# Altium footprint library miscellanea.PcbLib: 14 footprints
Each footprint in its own frame and in the unit in brackets; x right, y up, seen from the top. Pads: shape width x height; smd on the part's side, far side on the other; paste and mask are expansions set on the pad; w line width, h text height; cw(c..) or ccw(c..) is an arc to the next point about the centre after c.
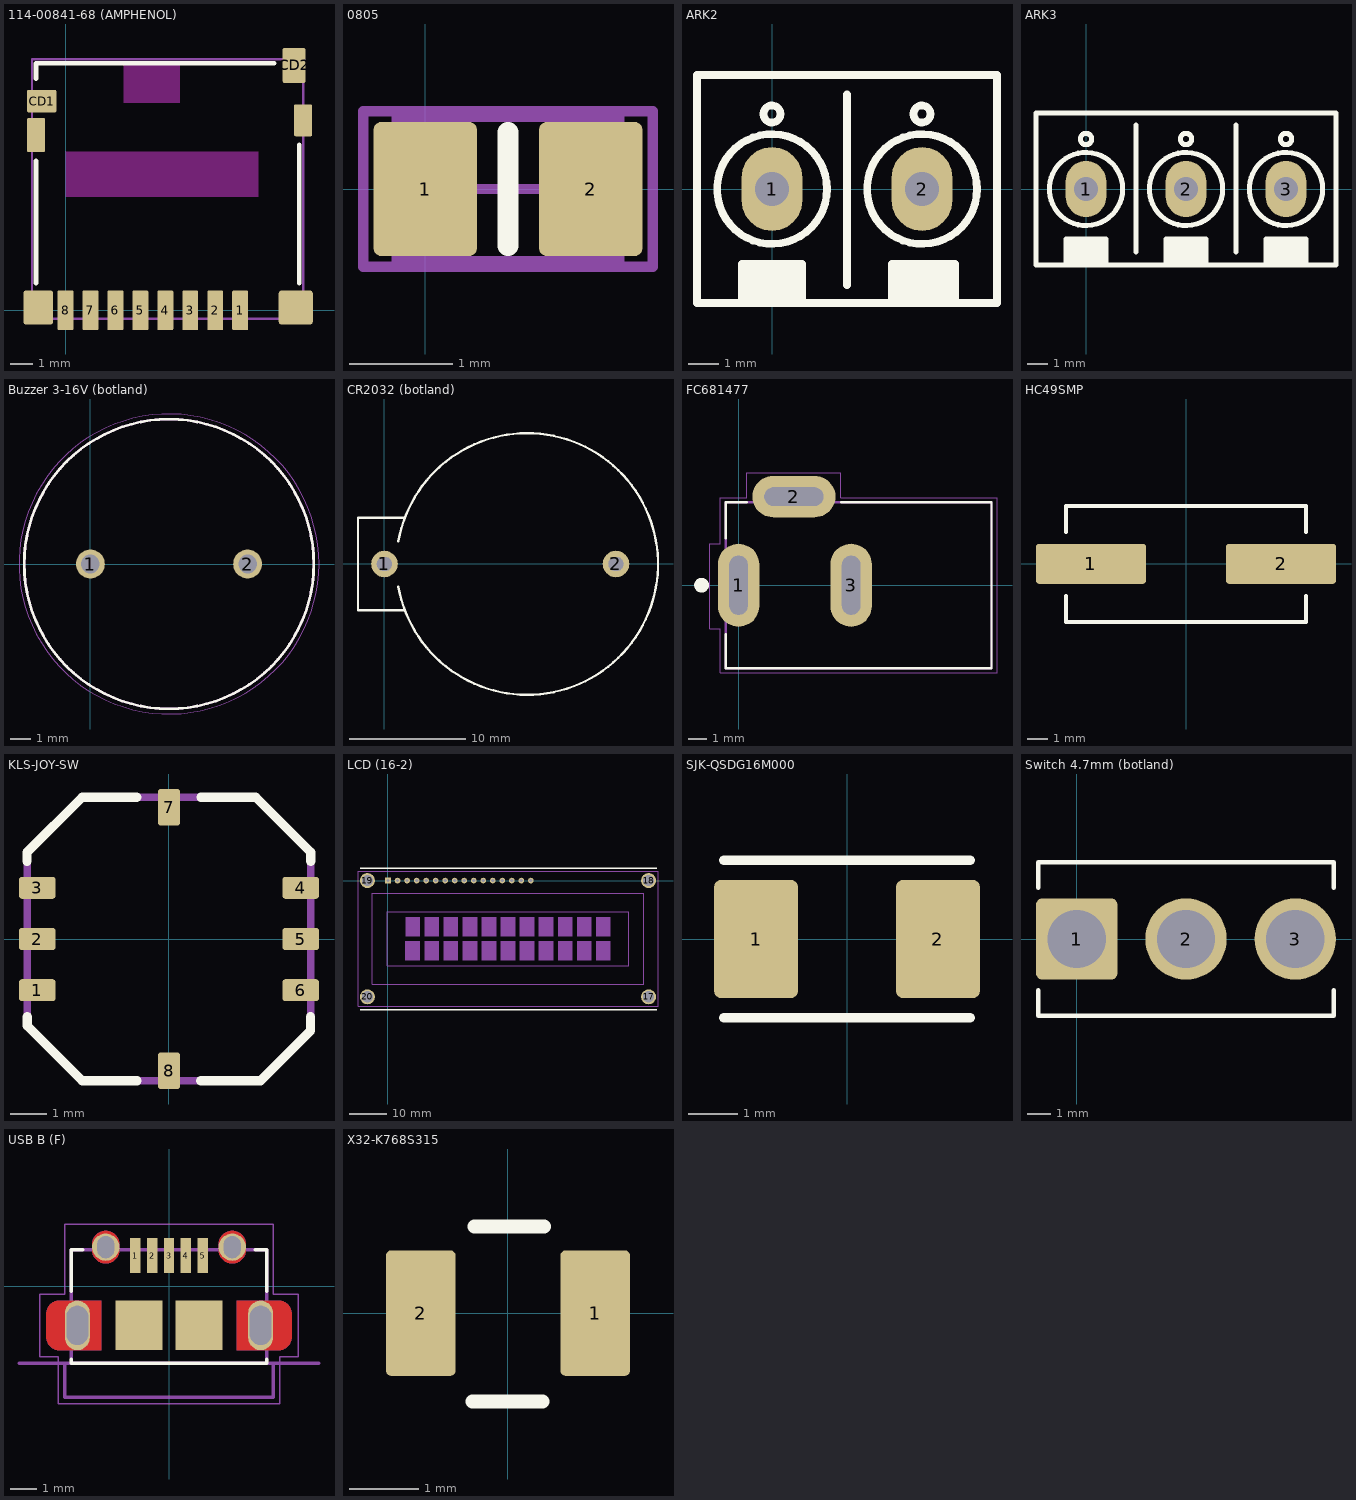
[diagram p0: the footprints below, top view; thin cyan lines are the x and y axes]

## 114-00841-68 (AMPHENOL) [mm]
pads (14):
  rrect15% 0.7x1.75 smd paste-0.05: 1(7.7,0) 2(6.6,0) 3(5.5,0) 4(4.4,0) 5(3.3,0) 6(2.2,0) 7(1.1,0) 8(0,0)
  rrect15% 1.3x1 smd mask+0.038: CD1(-1.05,9.225)
  rrect15% 1x1.55 smd paste-0.05: CD2(10.075,10.8)
  rrect15% 0.8x1.5 smd paste-0.05 mask+0.038: ""(-1.3,7.725)
  rrect15% 1.3x1.5 smd paste-0.05: ""(-1.2,0.125)
  rrect15% 1.5x1.5 smd paste-0.05: ""(10.15,0.125)
  rrect15% 0.8x1.4 smd paste-0.05: ""(10.475,8.375)
Top Layer keep-out:
  rectangle: 2.55,9.15 5.05,11
  rectangle: 0,5 8.5,7
Top Overlay:
  lines w0.2: -1.3,1.2 -1.3,6.6 ; -1.3,10.2 -1.3,10.9 5.6,10.9 9.2,10.9 ; 10.3,1.2 10.3,7.3
Mechanical 15:
  lines w0.1: -1.475,-0.375 10.475,-0.375 10.475,11.075 -1.475,11.075 -1.475,-0.375

## 0805 [mm]
pads (2):
  rrect15% 1x1.3 smd: 1(0,0) 2(1.6,0)
Top Overlay:
  lines w0.2: 0.8,-0.55 0.8,0.55
Mechanical 13:
  lines w0.1: -0.275,-0.7 1.875,-0.7 1.875,0.7 -0.275,0.7 -0.275,-0.7
Mechanical 15:
  lines w0.1: 0.3,0 1.3,0 ; 0.8,-0.5 0.8,0.5 ; -0.6,-0.75 2.2,-0.75 2.2,0.75 -0.6,0.75 -0.6,-0.75

## ARK2 [mil]
pads (2):
  oval 80x110 hole 45: 1(0,0) 2(196.85,0)
Top Overlay:
  circle w10: c196.85,0 r72.11
  circle w10: c0,0 r72.11
  circle w10: c0,98.43 r11.18
  circle w10: c196.85,98.43 r11.18
  rectangle: 161.42,-148.43 241.42,-98.43
  rectangle: -39.37,-148.43 40.63,-98.43
  lines w10: -39.37,-149.61 -39.37,-98.43 39.37,-98.43 39.37,-149.61 ; 98.43,-125.98 98.43,124.02 ; 157.48,-149.61 157.48,-98.43 240.16,-98.43 240.16,-149.61 ; -98.43,-149.61 -98.43,149.61 295.28,149.61 295.28,-149.61 -98.43,-149.61

## ARK3 [mil]
pads (3):
  oval 80x110 hole 47.24: 1(0,0) 2(196.85,0) 3(393.7,0)
Top Overlay:
  circle w10: c393.7,98.43 r11.18
  circle w10: c196.85,98.43 r11.18
  circle w10: c0,98.43 r11.18
  circle w10: c0,0 r72.11
  circle w10: c196.85,0 r72.11
  circle w10: c393.7,0 r72.11
  rectangle: -39.37,-149.61 40.63,-99.61
  rectangle: 156.22,-148.43 236.22,-98.43
  rectangle: 353.07,-148.43 433.07,-98.43
  lines w10: -39.37,-149.61 -39.37,-98.43 39.37,-98.43 39.37,-149.61 ; 98.43,-124.02 98.43,125.98 ; 157.48,-149.61 157.48,-98.43 236.22,-98.43 236.22,-148.43 ; 295.28,-124.02 295.28,125.98 ; 354.33,-149.61 354.33,-98.43 433.07,-98.43 433.07,-149.61 ; -98.43,-149.61 -98.43,149.61 492.13,149.61 492.13,0 492.13,-149.61 -98.43,-149.61
3D body: height 393.7, standoff 0, extent -98.33,-145.67 488.19,145.67

## Buzzer 3-16V (botland) [mm]
pads (2):
  round 1.4 hole 0.9: 1(0,0) 2(7.6,0)
Top Overlay:
  circle w0.127: c3.8,0 r7
Mechanical 4:
  circle w0.127: c3.8,0 r7
  circle w0.127: c3.8,0 r7
Mechanical 16:
  circle w0.05: c3.8,0 r7.25

## CR2032 (botland) [mm]
pads (2):
  round 2.3 hole 1.3 slot 1.2 at 90 deg: 1(0,0) 2(20,0)
Top Overlay:
  lines w0.2: 1.202,-1.962 ccw(c12.33,0) 1.202,1.962 ; 1.78,-4 -2.286,-4 -2.286,4 1.78,4
3D body "CR2032_HOR_HOLD.step": height 8.5, standoff -4, extent -1.07,-11 23.43,11

## FC681477 [mm]
pads (3):
  oval 2.25x4.5 hole 1 slot 3.2 at 90 deg: 1(0,0) 3(6.1,0)
  oval 4.5x2.25 hole 1 slot 3.2 at 0 deg: 2(3,4.8)
Top Overlay:
  circle w0.4: c-2,0 r0.2
  lines w0.127: -0.7,-2.65 -0.7,-4.5 13.7,-4.5 13.7,4.5 5.55,4.5 ; -0.7,2.55 -0.7,4.5 0.45,4.5
Mechanical 1:
  lines w0: -0.5,-1.75 -0.5,1.75 0.5,1.75 0.5,-1.75 -0.5,-1.75 ; 1.5,4.2 4.5,4.2 4.5,5.2 1.5,5.2 1.5,4.2 ; 5.5,-1.5 5.5,1.5 6.5,1.5 6.5,-1.5 5.5,-1.5
Mechanical 4:
  lines w0.127: -0.7,-4.5 -0.7,4.5 ; -0.7,-4.5 13.7,-4.5 ; -0.7,-4.5 -0.7,4.5 ; -0.7,-4.5 13.7,-4.5 ; -0.7,4.5 13.7,4.5 ; -0.7,4.5 13.7,4.5 ; 13.7,-4.5 13.7,4.5 ; 13.7,-4.5 13.7,4.5
Mechanical 16:
  lines w0.05: -1.55,-2.35 -1,-2.35 -1,-4.75 14,-4.75 14,4.75 5.55,4.75 5.55,6.1 0.45,6.1 0.45,4.75 -1,4.75 -1,2.25 -1.55,2.25 -1.55,-2.35

## HC49SMP [mm]
pads (2):
  rrect15% 5.5x2 smd paste-0.05: 1(-4.75,0) 2(4.75,0)
Top Overlay:
  lines w0.2: -6,-1.6 -6,-2.915 6,-2.915 6,-1.6 ; -6,1.6 -6,2.9 6,2.9 6,1.6
3D body: height 4, standoff 0, extent -6,-2.9 6,2.9

## KLS-JOY-SW [mm]
height 5.1
pads (8):
  rrect25% 1x0.6 smd paste-0.05: 1(-3.6,-1.4) 2(-3.6,0) 3(-3.6,1.4) 4(3.6,1.4) 5(3.6,0) 6(3.6,-1.4)
  rrect25% 0.6x1 smd paste-0.05: 7(0,3.6) 8(0,-3.6)
Top Overlay:
  lines w0.254: -3.88,2.125 -3.88,2.37 -2.375,3.875 -0.88,3.875 ; -3.875,-2.126 -3.875,-2.375 -2.375,-3.875 -0.875,-3.875 ; 0.87,-3.875 2.5,-3.875 3.87,-2.505 3.87,-2.125 ; 0.875,3.875 2.375,3.875 3.875,2.375 3.875,2.126
Dimensions:
  lines w0.2: -3.875,-2.375 -3.875,2.375 -2.375,3.875 2.375,3.875 3.875,2.375 3.875,-2.5 2.5,-3.875 -2.375,-3.875 -3.875,-2.375
3D body: height 5.1, standoff 0.05, extent -1.17,-1.173 1.17,1.173
3D body: height 0.25, standoff 0, extent 6,4.25 6,4.25
3D body: height 2.7, standoff 0.1, extent -1.95,-1.947 1.95,1.947
3D body: height 1.85, standoff 0, extent -3.877,-3.873 3.877,3.877

## LCD (16-2) [mm]
pads (20):
  rect 1.5x1.5 hole 0.9: 1(0,0)
  round 1.5 hole 0.9: 2(2.54,0) 3(5.08,0) 4(7.62,0) 5(10.16,0) 6(12.7,0) 7(15.24,0) 8(17.78,0) 9(20.32,0) 10(22.86,0) 11(25.4,0) 12(27.94,0) 13(30.48,0) 14(33.02,0) 15(35.56,0) 16(38.1,0)
  round 4 hole 3: 17(69.5,-31) 18(69.5,0) 19(-5.5,0) 20(-5.5,-31)
Top Overlay:
  lines w0.4: -7.391,3.302 71.609,3.302 ; -7.373,-34.473 71.627,-34.473
Mechanical 13:
  region: 8.5,-21.244 4.66,-21.244 4.66,-16.18 8.5,-16.18
  region: 13.58,-14.888 9.745,-14.888 9.745,-9.83 13.58,-9.83
  region: 13.58,-21.25 9.754,-21.25 9.754,-16.18 13.58,-16.18
  region: 18.66,-14.907 14.848,-14.907 14.848,-9.83 18.66,-9.83
  region: 18.66,-21.252 14.84,-21.252 14.84,-16.18 18.66,-16.18
  region: 23.74,-14.874 19.907,-14.874 19.907,-9.83 23.74,-9.83
  region: 23.74,-21.256 19.926,-21.256 19.926,-16.18 23.74,-16.18
  region: 28.82,-14.874 24.995,-14.874 24.995,-9.83 28.82,-9.83
  region: 28.82,-21.254 25.006,-21.254 25.006,-16.18 28.82,-16.18
  region: 33.9,-14.873 30.083,-14.873 30.083,-9.83 33.9,-9.83
  region: 33.9,-21.233 30.083,-21.233 30.083,-16.18 33.9,-16.18
  region: 38.98,-14.882 35.172,-14.882 35.172,-9.83 38.98,-9.83
  region: 38.98,-21.255 35.17,-21.255 35.17,-16.18 38.98,-16.18
  region: 44.06,-14.88 40.259,-14.88 40.259,-9.83 44.06,-9.83
  region: 44.06,-21.239 40.259,-21.239 40.259,-16.18 44.06,-16.18
  region: 49.14,-14.903 45.334,-14.903 45.334,-9.83 49.14,-9.83
  region: 49.14,-21.237 45.347,-21.237 45.347,-16.18 49.14,-16.18
  region: 54.22,-14.889 50.426,-14.889 50.426,-9.83 54.22,-9.83
  region: 54.22,-21.236 50.436,-21.236 50.436,-16.18 54.22,-16.18
  region: 59.3,-14.892 55.508,-14.892 55.508,-9.83 59.3,-9.83
  region: 59.3,-21.246 55.51,-21.246 55.51,-16.18 59.3,-16.18
  region: 8.5,-14.896 4.672,-14.896 4.672,-9.83 8.5,-9.83
  lines w0.2: -4.2,-27.6 -4.2,-3.4 68.2,-3.4 68.2,-27.6 -4.2,-27.6 ; -0.2,-22.7 64.2,-22.7 64.2,-8.3 -0.2,-8.3 -0.2,-22.7
Mechanical 15:
  lines w0.05: -8,-33.5 72,-33.5 72,2.5 -8,2.5 -8,-33.5

## SJK-QSDG16M000 [mm]
pads (2):
  rrect15% 1.7x2.4 smd: 1(-1.85,0)
  rrect15% 1.7x2.4 smd paste-0.05: 2(1.85,0)
Top Overlay:
  lines w0.2: -2.5,-1.6 2.5,-1.6 ; -2.5,1.6 2.5,1.6

## Switch 4.7mm (botland) [mm]
pads (3):
  rrect15% 3.5x3.5 hole 2.5: 1(0,0)
  round 3.5 hole 2.5: 2(4.7,0) 3(9.4,0)
Top Overlay:
  lines w0.2: -1.65,-2.2 -1.65,-3.3 11.05,-3.3 11.05,-2.2 ; -1.65,2.2 -1.65,3.3 11.05,3.3 11.05,2.2

## USB B (F) [mm]
pads (11):
  rect 0.4x1.35 smd mask+0.038: 1(-1.3,1.175) 2(-0.65,1.175) 3(0,1.175) 4(0.65,1.175) 5(1.3,1.175)
  oval 0.95x1.9 hole 0.825 slot 1.5 at 90 deg: ""(-3.512,-1.5) ""(3.512,-1.5)
  round 1.05 hole 0.85 slot 0.65 at 0 deg: ""(-2.425,1.5) ""(2.425,1.5)
  rect 1.8x1.9 smd: ""(-1.15,-1.5) ""(1.15,-1.5)
Top Layer:
  region: 3.1,-1.5 2.6,-1.5 2.6,-0.55 4.2,-0.55 4.226,-0.551 4.252,-0.553 4.278,-0.556 4.304,-0.561 4.329,-0.567 4.355,-0.574 4.379,-0.583 4.403,-0.593 4.427,-0.604 4.45,-0.617 4.472,-0.631 4.494,-0.645 4.515,-0.661 4.535,-0.678 4.554,-0.696 4.572,-0.715 4.589,-0.735 4.605,-0.756 4.619,-0.778 4.633,-0.8 4.645,-0.823 4.657,-0.847 4.667,-0.871 4.676,-0.895 4.683,-0.921 4.689,-0.946 4.694,-0.972 4.697,-0.998 4.699,-1.024 4.7,-1.05 4.7,-1.5 3.925,-1.5 3.925,-1.025 3.925,-1.011 3.923,-0.996 3.922,-0.982 3.919,-0.968 3.916,-0.954 3.912,-0.94 3.907,-0.926 3.901,-0.913 3.895,-0.9 3.888,-0.887 3.881,-0.875 3.872,-0.863 3.864,-0.852 3.854,-0.841 3.844,-0.831 3.834,-0.821 3.823,-0.811 3.812,-0.803 3.8,-0.794 3.788,-0.787 3.775,-0.78 3.762,-0.774 3.749,-0.768 3.735,-0.763 3.721,-0.759 3.707,-0.756 3.693,-0.753 3.679,-0.752 3.664,-0.75 3.65,-0.75 3.4,-0.75 3.384,-0.75 3.369,-0.752 3.353,-0.754 3.338,-0.757 3.322,-0.76 3.307,-0.765 3.292,-0.77 3.278,-0.776 3.264,-0.783 3.25,-0.79 3.237,-0.798 3.224,-0.807 3.211,-0.817 3.199,-0.827 3.188,-0.838 3.177,-0.849 3.167,-0.861 3.157,-0.874 3.148,-0.887 3.14,-0.9 3.133,-0.914 3.126,-0.928 3.12,-0.942 3.115,-0.957 3.11,-0.972 3.107,-0.988 3.104,-1.003 3.102,-1.019 3.1,-1.034 3.1,-1.05
  region: -3.1,-1.5 -2.6,-1.5 -2.6,-2.45 -4.2,-2.45 -4.226,-2.449 -4.252,-2.447 -4.278,-2.444 -4.304,-2.439 -4.329,-2.433 -4.355,-2.426 -4.379,-2.417 -4.403,-2.407 -4.427,-2.396 -4.45,-2.383 -4.472,-2.369 -4.494,-2.355 -4.515,-2.339 -4.535,-2.322 -4.554,-2.304 -4.572,-2.285 -4.589,-2.265 -4.605,-2.244 -4.619,-2.222 -4.633,-2.2 -4.645,-2.177 -4.657,-2.153 -4.667,-2.129 -4.676,-2.105 -4.683,-2.079 -4.689,-2.054 -4.694,-2.028 -4.697,-2.002 -4.699,-1.976 -4.7,-1.95 -4.7,-1.5 -3.925,-1.5 -3.925,-1.975 -3.925,-1.989 -3.923,-2.004 -3.922,-2.018 -3.919,-2.032 -3.916,-2.046 -3.912,-2.06 -3.907,-2.074 -3.901,-2.087 -3.895,-2.1 -3.888,-2.112 -3.881,-2.125 -3.872,-2.137 -3.864,-2.148 -3.854,-2.159 -3.844,-2.169 -3.834,-2.179 -3.823,-2.189 -3.812,-2.197 -3.8,-2.206 -3.788,-2.213 -3.775,-2.22 -3.762,-2.226 -3.749,-2.232 -3.735,-2.237 -3.721,-2.241 -3.707,-2.244 -3.693,-2.247 -3.679,-2.248 -3.664,-2.25 -3.65,-2.25 -3.4,-2.25 -3.384,-2.25 -3.369,-2.248 -3.353,-2.246 -3.338,-2.243 -3.322,-2.24 -3.307,-2.235 -3.292,-2.23 -3.278,-2.224 -3.264,-2.217 -3.25,-2.21 -3.237,-2.202 -3.224,-2.193 -3.211,-2.183 -3.199,-2.173 -3.188,-2.162 -3.177,-2.151 -3.167,-2.139 -3.157,-2.126 -3.148,-2.113 -3.14,-2.1 -3.133,-2.086 -3.126,-2.072 -3.12,-2.058 -3.115,-2.043 -3.11,-2.028 -3.107,-2.012 -3.104,-1.997 -3.102,-1.981 -3.1,-1.966 -3.1,-1.95
  region: 2.6,-2.45 4.2,-2.45 4.226,-2.449 4.252,-2.447 4.278,-2.444 4.304,-2.439 4.329,-2.433 4.355,-2.426 4.379,-2.417 4.403,-2.407 4.427,-2.396 4.45,-2.383 4.472,-2.369 4.494,-2.355 4.515,-2.339 4.535,-2.322 4.554,-2.304 4.572,-2.285 4.589,-2.265 4.605,-2.244 4.619,-2.222 4.633,-2.2 4.645,-2.177 4.657,-2.153 4.667,-2.129 4.676,-2.105 4.683,-2.079 4.689,-2.054 4.694,-2.028 4.697,-2.002 4.699,-1.976 4.7,-1.95 4.7,-1.5 3.925,-1.5 3.925,-1.95 3.925,-1.966 3.923,-1.981 3.921,-1.997 3.918,-2.012 3.915,-2.028 3.91,-2.043 3.905,-2.058 3.899,-2.072 3.892,-2.086 3.885,-2.1 3.877,-2.113 3.868,-2.126 3.858,-2.139 3.848,-2.151 3.837,-2.162 3.826,-2.173 3.814,-2.183 3.801,-2.193 3.788,-2.202 3.775,-2.21 3.761,-2.217 3.747,-2.224 3.733,-2.23 3.718,-2.235 3.703,-2.24 3.687,-2.243 3.672,-2.246 3.656,-2.248 3.641,-2.25 3.625,-2.25 3.4,-2.25 3.384,-2.25 3.369,-2.248 3.353,-2.246 3.338,-2.243 3.322,-2.24 3.307,-2.235 3.292,-2.23 3.278,-2.224 3.264,-2.217 3.25,-2.21 3.237,-2.202 3.224,-2.193 3.211,-2.183 3.199,-2.173 3.188,-2.162 3.177,-2.151 3.167,-2.139 3.157,-2.126 3.148,-2.113 3.14,-2.1 3.133,-2.086 3.126,-2.072 3.12,-2.058 3.115,-2.043 3.11,-2.028 3.107,-2.012 3.104,-1.997 3.102,-1.981 3.1,-1.966 3.1,-1.95 3.1,-1.5 2.6,-1.5
  region: -2.6,-0.55 -4.2,-0.55 -4.226,-0.551 -4.252,-0.553 -4.278,-0.556 -4.304,-0.561 -4.329,-0.567 -4.355,-0.574 -4.379,-0.583 -4.403,-0.593 -4.427,-0.604 -4.45,-0.617 -4.472,-0.631 -4.494,-0.645 -4.515,-0.661 -4.535,-0.678 -4.554,-0.696 -4.572,-0.715 -4.589,-0.735 -4.605,-0.756 -4.619,-0.778 -4.633,-0.8 -4.645,-0.823 -4.657,-0.847 -4.667,-0.871 -4.676,-0.895 -4.683,-0.921 -4.689,-0.946 -4.694,-0.972 -4.697,-0.998 -4.699,-1.024 -4.7,-1.05 -4.7,-1.5 -3.925,-1.5 -3.925,-1.05 -3.925,-1.034 -3.923,-1.019 -3.921,-1.003 -3.918,-0.988 -3.915,-0.972 -3.91,-0.957 -3.905,-0.942 -3.899,-0.928 -3.892,-0.914 -3.885,-0.9 -3.877,-0.887 -3.868,-0.874 -3.858,-0.861 -3.848,-0.849 -3.837,-0.838 -3.826,-0.827 -3.814,-0.817 -3.801,-0.807 -3.788,-0.798 -3.775,-0.79 -3.761,-0.783 -3.747,-0.776 -3.733,-0.77 -3.718,-0.765 -3.703,-0.76 -3.687,-0.757 -3.672,-0.754 -3.656,-0.752 -3.641,-0.75 -3.625,-0.75 -3.4,-0.75 -3.384,-0.75 -3.369,-0.752 -3.353,-0.754 -3.338,-0.757 -3.322,-0.76 -3.307,-0.765 -3.292,-0.77 -3.278,-0.776 -3.264,-0.783 -3.25,-0.79 -3.237,-0.798 -3.224,-0.807 -3.211,-0.817 -3.199,-0.827 -3.188,-0.838 -3.177,-0.849 -3.167,-0.861 -3.157,-0.874 -3.148,-0.887 -3.14,-0.9 -3.133,-0.914 -3.126,-0.928 -3.12,-0.942 -3.115,-0.957 -3.11,-0.972 -3.107,-0.988 -3.104,-1.003 -3.102,-1.019 -3.1,-1.034 -3.1,-1.05 -3.1,-1.5 -2.6,-1.5
  region: 2.425,1.075 2.425,0.875 2.398,0.876 2.37,0.878 2.343,0.881 2.316,0.886 2.289,0.893 2.263,0.901 2.237,0.91 2.211,0.92 2.187,0.932 2.163,0.945 2.139,0.96 2.116,0.975 2.095,0.992 2.074,1.01 2.054,1.029 2.035,1.049 2.017,1.07 2,1.091 1.985,1.114 1.97,1.138 1.957,1.162 1.945,1.186 1.935,1.212 1.926,1.238 1.918,1.264 1.911,1.291 1.906,1.318 1.903,1.345 1.901,1.373 1.9,1.4 1.9,1.6 1.901,1.627 1.903,1.655 1.906,1.682 1.911,1.709 1.918,1.736 1.926,1.762 1.935,1.788 1.945,1.814 1.957,1.838 1.97,1.863 1.985,1.886 2,1.909 2.017,1.93 2.035,1.951 2.054,1.971 2.074,1.99 2.095,2.008 2.116,2.025 2.139,2.04 2.163,2.055 2.187,2.068 2.211,2.08 2.237,2.09 2.263,2.099 2.289,2.107 2.316,2.114 2.343,2.119 2.37,2.122 2.398,2.124 2.425,2.125 2.425,1.925 2.408,1.925 2.391,1.923 2.374,1.921 2.357,1.918 2.341,1.914 2.325,1.909 2.309,1.903 2.293,1.897 2.277,1.89 2.262,1.881 2.248,1.873 2.234,1.863 2.22,1.853 2.208,1.842 2.195,1.83 2.183,1.817 2.172,1.805 2.162,1.791 2.152,1.777 2.144,1.763 2.135,1.748 2.128,1.732 2.122,1.716 2.116,1.7 2.111,1.684 2.107,1.668 2.104,1.651 2.102,1.634 2.1,1.617 2.1,1.6 2.1,1.4 2.1,1.383 2.102,1.366 2.104,1.349 2.107,1.332 2.111,1.316 2.116,1.3 2.122,1.284 2.128,1.268 2.135,1.252 2.144,1.238 2.152,1.223 2.162,1.209 2.172,1.195 2.183,1.183 2.195,1.17 2.208,1.158 2.22,1.147 2.234,1.137 2.248,1.127 2.262,1.119 2.277,1.11 2.293,1.103 2.309,1.097 2.325,1.091 2.341,1.086 2.357,1.082 2.374,1.079 2.391,1.077 2.408,1.075
  region: 2.425,1.925 2.425,2.125 2.452,2.124 2.48,2.122 2.507,2.119 2.534,2.114 2.561,2.107 2.587,2.099 2.613,2.09 2.639,2.08 2.663,2.068 2.688,2.055 2.711,2.04 2.734,2.025 2.755,2.008 2.776,1.99 2.796,1.971 2.815,1.951 2.833,1.93 2.85,1.909 2.865,1.886 2.88,1.863 2.893,1.838 2.905,1.814 2.915,1.788 2.924,1.762 2.932,1.736 2.939,1.709 2.944,1.682 2.947,1.655 2.949,1.627 2.95,1.6 2.95,1.4 2.949,1.373 2.947,1.345 2.944,1.318 2.939,1.291 2.932,1.264 2.924,1.238 2.915,1.212 2.905,1.186 2.893,1.162 2.88,1.138 2.865,1.114 2.85,1.091 2.833,1.07 2.815,1.049 2.796,1.029 2.776,1.01 2.755,0.992 2.734,0.975 2.711,0.96 2.688,0.945 2.663,0.932 2.639,0.92 2.613,0.91 2.587,0.901 2.561,0.893 2.534,0.886 2.507,0.881 2.48,0.878 2.452,0.876 2.425,0.875 2.425,1.075 2.442,1.075 2.459,1.077 2.476,1.079 2.493,1.082 2.509,1.086 2.525,1.091 2.541,1.097 2.557,1.103 2.573,1.11 2.588,1.119 2.602,1.127 2.616,1.137 2.63,1.147 2.642,1.158 2.655,1.17 2.667,1.183 2.678,1.195 2.688,1.209 2.698,1.223 2.706,1.238 2.715,1.252 2.722,1.268 2.728,1.284 2.734,1.3 2.739,1.316 2.743,1.332 2.746,1.349 2.748,1.366 2.75,1.383 2.75,1.4 2.75,1.6 2.75,1.617 2.748,1.634 2.746,1.651 2.743,1.668 2.739,1.684 2.734,1.7 2.728,1.716 2.722,1.732 2.715,1.748 2.706,1.763 2.698,1.777 2.688,1.791 2.678,1.805 2.667,1.817 2.655,1.83 2.642,1.842 2.63,1.853 2.616,1.863 2.602,1.873 2.588,1.881 2.573,1.89 2.557,1.897 2.541,1.903 2.525,1.909 2.509,1.914 2.493,1.918 2.476,1.921 2.459,1.923 2.442,1.925
  region: -2.425,1.075 -2.425,0.875 -2.452,0.876 -2.48,0.878 -2.507,0.881 -2.534,0.886 -2.561,0.893 -2.587,0.901 -2.613,0.91 -2.639,0.92 -2.663,0.932 -2.688,0.945 -2.711,0.96 -2.734,0.975 -2.755,0.992 -2.776,1.01 -2.796,1.029 -2.815,1.049 -2.833,1.07 -2.85,1.091 -2.865,1.114 -2.88,1.138 -2.893,1.162 -2.905,1.186 -2.915,1.212 -2.924,1.238 -2.932,1.264 -2.939,1.291 -2.944,1.318 -2.947,1.345 -2.949,1.373 -2.95,1.4 -2.95,1.6 -2.949,1.627 -2.947,1.655 -2.944,1.682 -2.939,1.709 -2.932,1.736 -2.924,1.762 -2.915,1.788 -2.905,1.814 -2.893,1.838 -2.88,1.863 -2.865,1.886 -2.85,1.909 -2.833,1.93 -2.815,1.951 -2.796,1.971 -2.776,1.99 -2.755,2.008 -2.734,2.025 -2.711,2.04 -2.688,2.055 -2.663,2.068 -2.639,2.08 -2.613,2.09 -2.587,2.099 -2.561,2.107 -2.534,2.114 -2.507,2.119 -2.48,2.122 -2.452,2.124 -2.425,2.125 -2.425,1.925 -2.442,1.925 -2.459,1.923 -2.476,1.921 -2.493,1.918 -2.509,1.914 -2.525,1.909 -2.541,1.903 -2.557,1.897 -2.573,1.89 -2.588,1.881 -2.602,1.873 -2.616,1.863 -2.63,1.853 -2.642,1.842 -2.655,1.83 -2.667,1.817 -2.678,1.805 -2.688,1.791 -2.698,1.777 -2.706,1.763 -2.715,1.748 -2.722,1.732 -2.728,1.716 -2.734,1.7 -2.739,1.684 -2.743,1.668 -2.746,1.651 -2.748,1.634 -2.75,1.617 -2.75,1.6 -2.75,1.4 -2.75,1.383 -2.748,1.366 -2.746,1.349 -2.743,1.332 -2.739,1.316 -2.734,1.3 -2.728,1.284 -2.722,1.268 -2.715,1.252 -2.706,1.238 -2.698,1.223 -2.688,1.209 -2.678,1.195 -2.667,1.183 -2.655,1.17 -2.642,1.158 -2.63,1.147 -2.616,1.137 -2.602,1.127 -2.588,1.119 -2.573,1.11 -2.557,1.103 -2.541,1.097 -2.525,1.091 -2.509,1.086 -2.493,1.082 -2.476,1.079 -2.459,1.077 -2.442,1.075
  region: -2.425,1.925 -2.425,2.125 -2.398,2.124 -2.37,2.122 -2.343,2.119 -2.316,2.114 -2.289,2.107 -2.263,2.099 -2.237,2.09 -2.211,2.08 -2.187,2.068 -2.163,2.055 -2.139,2.04 -2.116,2.025 -2.095,2.008 -2.074,1.99 -2.054,1.971 -2.035,1.951 -2.017,1.93 -2,1.909 -1.985,1.886 -1.97,1.863 -1.957,1.838 -1.945,1.814 -1.935,1.788 -1.926,1.762 -1.918,1.736 -1.911,1.709 -1.906,1.682 -1.903,1.655 -1.901,1.627 -1.9,1.6 -1.9,1.4 -1.901,1.373 -1.903,1.345 -1.906,1.318 -1.911,1.291 -1.918,1.264 -1.926,1.238 -1.935,1.212 -1.945,1.186 -1.957,1.162 -1.97,1.138 -1.985,1.114 -2,1.091 -2.017,1.07 -2.035,1.049 -2.054,1.029 -2.074,1.01 -2.095,0.992 -2.116,0.975 -2.139,0.96 -2.163,0.945 -2.187,0.932 -2.211,0.92 -2.237,0.91 -2.263,0.901 -2.289,0.893 -2.316,0.886 -2.343,0.881 -2.37,0.878 -2.398,0.876 -2.425,0.875 -2.425,1.075 -2.408,1.075 -2.391,1.077 -2.374,1.079 -2.357,1.082 -2.341,1.086 -2.325,1.091 -2.309,1.097 -2.293,1.103 -2.277,1.11 -2.262,1.119 -2.248,1.127 -2.234,1.137 -2.22,1.147 -2.208,1.158 -2.195,1.17 -2.183,1.183 -2.172,1.195 -2.162,1.209 -2.152,1.223 -2.144,1.238 -2.135,1.252 -2.128,1.268 -2.122,1.284 -2.116,1.3 -2.111,1.316 -2.107,1.332 -2.104,1.349 -2.102,1.366 -2.1,1.383 -2.1,1.4 -2.1,1.6 -2.1,1.617 -2.102,1.634 -2.104,1.651 -2.107,1.668 -2.111,1.684 -2.116,1.7 -2.122,1.716 -2.128,1.732 -2.135,1.748 -2.144,1.763 -2.152,1.777 -2.162,1.791 -2.172,1.805 -2.183,1.817 -2.195,1.83 -2.208,1.842 -2.22,1.853 -2.234,1.863 -2.248,1.873 -2.262,1.881 -2.277,1.89 -2.293,1.897 -2.309,1.903 -2.325,1.909 -2.341,1.914 -2.357,1.918 -2.374,1.921 -2.391,1.923 -2.408,1.925
Bottom Layer:
  region: 3.1,-1.5 2.6,-1.5 2.6,-0.55 4.2,-0.55 4.226,-0.551 4.252,-0.553 4.278,-0.556 4.304,-0.561 4.329,-0.567 4.355,-0.574 4.379,-0.583 4.403,-0.593 4.427,-0.604 4.45,-0.617 4.472,-0.631 4.494,-0.645 4.515,-0.661 4.535,-0.678 4.554,-0.696 4.572,-0.715 4.589,-0.735 4.605,-0.756 4.619,-0.778 4.633,-0.8 4.645,-0.823 4.657,-0.847 4.667,-0.871 4.676,-0.895 4.683,-0.921 4.689,-0.946 4.694,-0.972 4.697,-0.998 4.699,-1.024 4.7,-1.05 4.7,-1.5 3.925,-1.5 3.925,-1.025 3.925,-1.011 3.923,-0.996 3.922,-0.982 3.919,-0.968 3.916,-0.954 3.912,-0.94 3.907,-0.926 3.901,-0.913 3.895,-0.9 3.888,-0.887 3.881,-0.875 3.872,-0.863 3.864,-0.852 3.854,-0.841 3.844,-0.831 3.834,-0.821 3.823,-0.811 3.812,-0.803 3.8,-0.794 3.788,-0.787 3.775,-0.78 3.762,-0.774 3.749,-0.768 3.735,-0.763 3.721,-0.759 3.707,-0.756 3.693,-0.753 3.679,-0.752 3.664,-0.75 3.65,-0.75 3.4,-0.75 3.384,-0.75 3.369,-0.752 3.353,-0.754 3.338,-0.757 3.322,-0.76 3.307,-0.765 3.292,-0.77 3.278,-0.776 3.264,-0.783 3.25,-0.79 3.237,-0.798 3.224,-0.807 3.211,-0.817 3.199,-0.827 3.188,-0.838 3.177,-0.849 3.167,-0.861 3.157,-0.874 3.148,-0.887 3.14,-0.9 3.133,-0.914 3.126,-0.928 3.12,-0.942 3.115,-0.957 3.11,-0.972 3.107,-0.988 3.104,-1.003 3.102,-1.019 3.1,-1.034 3.1,-1.05
  region: -3.1,-1.5 -2.6,-1.5 -2.6,-2.45 -4.2,-2.45 -4.226,-2.449 -4.252,-2.447 -4.278,-2.444 -4.304,-2.439 -4.329,-2.433 -4.355,-2.426 -4.379,-2.417 -4.403,-2.407 -4.427,-2.396 -4.45,-2.383 -4.472,-2.369 -4.494,-2.355 -4.515,-2.339 -4.535,-2.322 -4.554,-2.304 -4.572,-2.285 -4.589,-2.265 -4.605,-2.244 -4.619,-2.222 -4.633,-2.2 -4.645,-2.177 -4.657,-2.153 -4.667,-2.129 -4.676,-2.105 -4.683,-2.079 -4.689,-2.054 -4.694,-2.028 -4.697,-2.002 -4.699,-1.976 -4.7,-1.95 -4.7,-1.5 -3.925,-1.5 -3.925,-1.975 -3.925,-1.989 -3.923,-2.004 -3.922,-2.018 -3.919,-2.032 -3.916,-2.046 -3.912,-2.06 -3.907,-2.074 -3.901,-2.087 -3.895,-2.1 -3.888,-2.112 -3.881,-2.125 -3.872,-2.137 -3.864,-2.148 -3.854,-2.159 -3.844,-2.169 -3.834,-2.179 -3.823,-2.189 -3.812,-2.197 -3.8,-2.206 -3.788,-2.213 -3.775,-2.22 -3.762,-2.226 -3.749,-2.232 -3.735,-2.237 -3.721,-2.241 -3.707,-2.244 -3.693,-2.247 -3.679,-2.248 -3.664,-2.25 -3.65,-2.25 -3.4,-2.25 -3.384,-2.25 -3.369,-2.248 -3.353,-2.246 -3.338,-2.243 -3.322,-2.24 -3.307,-2.235 -3.292,-2.23 -3.278,-2.224 -3.264,-2.217 -3.25,-2.21 -3.237,-2.202 -3.224,-2.193 -3.211,-2.183 -3.199,-2.173 -3.188,-2.162 -3.177,-2.151 -3.167,-2.139 -3.157,-2.126 -3.148,-2.113 -3.14,-2.1 -3.133,-2.086 -3.126,-2.072 -3.12,-2.058 -3.115,-2.043 -3.11,-2.028 -3.107,-2.012 -3.104,-1.997 -3.102,-1.981 -3.1,-1.966 -3.1,-1.95
  region: 2.6,-2.45 4.2,-2.45 4.226,-2.449 4.252,-2.447 4.278,-2.444 4.304,-2.439 4.329,-2.433 4.355,-2.426 4.379,-2.417 4.403,-2.407 4.427,-2.396 4.45,-2.383 4.472,-2.369 4.494,-2.355 4.515,-2.339 4.535,-2.322 4.554,-2.304 4.572,-2.285 4.589,-2.265 4.605,-2.244 4.619,-2.222 4.633,-2.2 4.645,-2.177 4.657,-2.153 4.667,-2.129 4.676,-2.105 4.683,-2.079 4.689,-2.054 4.694,-2.028 4.697,-2.002 4.699,-1.976 4.7,-1.95 4.7,-1.5 3.925,-1.5 3.925,-1.95 3.925,-1.966 3.923,-1.981 3.921,-1.997 3.918,-2.012 3.915,-2.028 3.91,-2.043 3.905,-2.058 3.899,-2.072 3.892,-2.086 3.885,-2.1 3.877,-2.113 3.868,-2.126 3.858,-2.139 3.848,-2.151 3.837,-2.162 3.826,-2.173 3.814,-2.183 3.801,-2.193 3.788,-2.202 3.775,-2.21 3.761,-2.217 3.747,-2.224 3.733,-2.23 3.718,-2.235 3.703,-2.24 3.687,-2.243 3.672,-2.246 3.656,-2.248 3.641,-2.25 3.625,-2.25 3.4,-2.25 3.384,-2.25 3.369,-2.248 3.353,-2.246 3.338,-2.243 3.322,-2.24 3.307,-2.235 3.292,-2.23 3.278,-2.224 3.264,-2.217 3.25,-2.21 3.237,-2.202 3.224,-2.193 3.211,-2.183 3.199,-2.173 3.188,-2.162 3.177,-2.151 3.167,-2.139 3.157,-2.126 3.148,-2.113 3.14,-2.1 3.133,-2.086 3.126,-2.072 3.12,-2.058 3.115,-2.043 3.11,-2.028 3.107,-2.012 3.104,-1.997 3.102,-1.981 3.1,-1.966 3.1,-1.95 3.1,-1.5 2.6,-1.5
  region: -2.6,-0.55 -4.2,-0.55 -4.226,-0.551 -4.252,-0.553 -4.278,-0.556 -4.304,-0.561 -4.329,-0.567 -4.355,-0.574 -4.379,-0.583 -4.403,-0.593 -4.427,-0.604 -4.45,-0.617 -4.472,-0.631 -4.494,-0.645 -4.515,-0.661 -4.535,-0.678 -4.554,-0.696 -4.572,-0.715 -4.589,-0.735 -4.605,-0.756 -4.619,-0.778 -4.633,-0.8 -4.645,-0.823 -4.657,-0.847 -4.667,-0.871 -4.676,-0.895 -4.683,-0.921 -4.689,-0.946 -4.694,-0.972 -4.697,-0.998 -4.699,-1.024 -4.7,-1.05 -4.7,-1.5 -3.925,-1.5 -3.925,-1.05 -3.925,-1.034 -3.923,-1.019 -3.921,-1.003 -3.918,-0.988 -3.915,-0.972 -3.91,-0.957 -3.905,-0.942 -3.899,-0.928 -3.892,-0.914 -3.885,-0.9 -3.877,-0.887 -3.868,-0.874 -3.858,-0.861 -3.848,-0.849 -3.837,-0.838 -3.826,-0.827 -3.814,-0.817 -3.801,-0.807 -3.788,-0.798 -3.775,-0.79 -3.761,-0.783 -3.747,-0.776 -3.733,-0.77 -3.718,-0.765 -3.703,-0.76 -3.687,-0.757 -3.672,-0.754 -3.656,-0.752 -3.641,-0.75 -3.625,-0.75 -3.4,-0.75 -3.384,-0.75 -3.369,-0.752 -3.353,-0.754 -3.338,-0.757 -3.322,-0.76 -3.307,-0.765 -3.292,-0.77 -3.278,-0.776 -3.264,-0.783 -3.25,-0.79 -3.237,-0.798 -3.224,-0.807 -3.211,-0.817 -3.199,-0.827 -3.188,-0.838 -3.177,-0.849 -3.167,-0.861 -3.157,-0.874 -3.148,-0.887 -3.14,-0.9 -3.133,-0.914 -3.126,-0.928 -3.12,-0.942 -3.115,-0.957 -3.11,-0.972 -3.107,-0.988 -3.104,-1.003 -3.102,-1.019 -3.1,-1.034 -3.1,-1.05 -3.1,-1.5 -2.6,-1.5
  region: 2.425,1.075 2.425,0.875 2.398,0.876 2.37,0.878 2.343,0.881 2.316,0.886 2.289,0.893 2.263,0.901 2.237,0.91 2.211,0.92 2.187,0.932 2.163,0.945 2.139,0.96 2.116,0.975 2.095,0.992 2.074,1.01 2.054,1.029 2.035,1.049 2.017,1.07 2,1.091 1.985,1.114 1.97,1.138 1.957,1.162 1.945,1.186 1.935,1.212 1.926,1.238 1.918,1.264 1.911,1.291 1.906,1.318 1.903,1.345 1.901,1.373 1.9,1.4 1.9,1.6 1.901,1.627 1.903,1.655 1.906,1.682 1.911,1.709 1.918,1.736 1.926,1.762 1.935,1.788 1.945,1.814 1.957,1.838 1.97,1.863 1.985,1.886 2,1.909 2.017,1.93 2.035,1.951 2.054,1.971 2.074,1.99 2.095,2.008 2.116,2.025 2.139,2.04 2.163,2.055 2.187,2.068 2.211,2.08 2.237,2.09 2.263,2.099 2.289,2.107 2.316,2.114 2.343,2.119 2.37,2.122 2.398,2.124 2.425,2.125 2.425,1.925 2.408,1.925 2.391,1.923 2.374,1.921 2.357,1.918 2.341,1.914 2.325,1.909 2.309,1.903 2.293,1.897 2.277,1.89 2.262,1.881 2.248,1.873 2.234,1.863 2.22,1.853 2.208,1.842 2.195,1.83 2.183,1.817 2.172,1.805 2.162,1.791 2.152,1.777 2.144,1.763 2.135,1.748 2.128,1.732 2.122,1.716 2.116,1.7 2.111,1.684 2.107,1.668 2.104,1.651 2.102,1.634 2.1,1.617 2.1,1.6 2.1,1.4 2.1,1.383 2.102,1.366 2.104,1.349 2.107,1.332 2.111,1.316 2.116,1.3 2.122,1.284 2.128,1.268 2.135,1.252 2.144,1.238 2.152,1.223 2.162,1.209 2.172,1.195 2.183,1.183 2.195,1.17 2.208,1.158 2.22,1.147 2.234,1.137 2.248,1.127 2.262,1.119 2.277,1.11 2.293,1.103 2.309,1.097 2.325,1.091 2.341,1.086 2.357,1.082 2.374,1.079 2.391,1.077 2.408,1.075
  region: 2.425,1.925 2.425,2.125 2.452,2.124 2.48,2.122 2.507,2.119 2.534,2.114 2.561,2.107 2.587,2.099 2.613,2.09 2.639,2.08 2.663,2.068 2.688,2.055 2.711,2.04 2.734,2.025 2.755,2.008 2.776,1.99 2.796,1.971 2.815,1.951 2.833,1.93 2.85,1.909 2.865,1.886 2.88,1.863 2.893,1.838 2.905,1.814 2.915,1.788 2.924,1.762 2.932,1.736 2.939,1.709 2.944,1.682 2.947,1.655 2.949,1.627 2.95,1.6 2.95,1.4 2.949,1.373 2.947,1.345 2.944,1.318 2.939,1.291 2.932,1.264 2.924,1.238 2.915,1.212 2.905,1.186 2.893,1.162 2.88,1.138 2.865,1.114 2.85,1.091 2.833,1.07 2.815,1.049 2.796,1.029 2.776,1.01 2.755,0.992 2.734,0.975 2.711,0.96 2.688,0.945 2.663,0.932 2.639,0.92 2.613,0.91 2.587,0.901 2.561,0.893 2.534,0.886 2.507,0.881 2.48,0.878 2.452,0.876 2.425,0.875 2.425,1.075 2.442,1.075 2.459,1.077 2.476,1.079 2.493,1.082 2.509,1.086 2.525,1.091 2.541,1.097 2.557,1.103 2.573,1.11 2.588,1.119 2.602,1.127 2.616,1.137 2.63,1.147 2.642,1.158 2.655,1.17 2.667,1.183 2.678,1.195 2.688,1.209 2.698,1.223 2.706,1.238 2.715,1.252 2.722,1.268 2.728,1.284 2.734,1.3 2.739,1.316 2.743,1.332 2.746,1.349 2.748,1.366 2.75,1.383 2.75,1.4 2.75,1.6 2.75,1.617 2.748,1.634 2.746,1.651 2.743,1.668 2.739,1.684 2.734,1.7 2.728,1.716 2.722,1.732 2.715,1.748 2.706,1.763 2.698,1.777 2.688,1.791 2.678,1.805 2.667,1.817 2.655,1.83 2.642,1.842 2.63,1.853 2.616,1.863 2.602,1.873 2.588,1.881 2.573,1.89 2.557,1.897 2.541,1.903 2.525,1.909 2.509,1.914 2.493,1.918 2.476,1.921 2.459,1.923 2.442,1.925
  region: -2.425,1.075 -2.425,0.875 -2.452,0.876 -2.48,0.878 -2.507,0.881 -2.534,0.886 -2.561,0.893 -2.587,0.901 -2.613,0.91 -2.639,0.92 -2.663,0.932 -2.688,0.945 -2.711,0.96 -2.734,0.975 -2.755,0.992 -2.776,1.01 -2.796,1.029 -2.815,1.049 -2.833,1.07 -2.85,1.091 -2.865,1.114 -2.88,1.138 -2.893,1.162 -2.905,1.186 -2.915,1.212 -2.924,1.238 -2.932,1.264 -2.939,1.291 -2.944,1.318 -2.947,1.345 -2.949,1.373 -2.95,1.4 -2.95,1.6 -2.949,1.627 -2.947,1.655 -2.944,1.682 -2.939,1.709 -2.932,1.736 -2.924,1.762 -2.915,1.788 -2.905,1.814 -2.893,1.838 -2.88,1.863 -2.865,1.886 -2.85,1.909 -2.833,1.93 -2.815,1.951 -2.796,1.971 -2.776,1.99 -2.755,2.008 -2.734,2.025 -2.711,2.04 -2.688,2.055 -2.663,2.068 -2.639,2.08 -2.613,2.09 -2.587,2.099 -2.561,2.107 -2.534,2.114 -2.507,2.119 -2.48,2.122 -2.452,2.124 -2.425,2.125 -2.425,1.925 -2.442,1.925 -2.459,1.923 -2.476,1.921 -2.493,1.918 -2.509,1.914 -2.525,1.909 -2.541,1.903 -2.557,1.897 -2.573,1.89 -2.588,1.881 -2.602,1.873 -2.616,1.863 -2.63,1.853 -2.642,1.842 -2.655,1.83 -2.667,1.817 -2.678,1.805 -2.688,1.791 -2.698,1.777 -2.706,1.763 -2.715,1.748 -2.722,1.732 -2.728,1.716 -2.734,1.7 -2.739,1.684 -2.743,1.668 -2.746,1.651 -2.748,1.634 -2.75,1.617 -2.75,1.6 -2.75,1.4 -2.75,1.383 -2.748,1.366 -2.746,1.349 -2.743,1.332 -2.739,1.316 -2.734,1.3 -2.728,1.284 -2.722,1.268 -2.715,1.252 -2.706,1.238 -2.698,1.223 -2.688,1.209 -2.678,1.195 -2.667,1.183 -2.655,1.17 -2.642,1.158 -2.63,1.147 -2.616,1.137 -2.602,1.127 -2.588,1.119 -2.573,1.11 -2.557,1.103 -2.541,1.097 -2.525,1.091 -2.509,1.086 -2.493,1.082 -2.476,1.079 -2.459,1.077 -2.442,1.075
  region: -2.425,1.925 -2.425,2.125 -2.398,2.124 -2.37,2.122 -2.343,2.119 -2.316,2.114 -2.289,2.107 -2.263,2.099 -2.237,2.09 -2.211,2.08 -2.187,2.068 -2.163,2.055 -2.139,2.04 -2.116,2.025 -2.095,2.008 -2.074,1.99 -2.054,1.971 -2.035,1.951 -2.017,1.93 -2,1.909 -1.985,1.886 -1.97,1.863 -1.957,1.838 -1.945,1.814 -1.935,1.788 -1.926,1.762 -1.918,1.736 -1.911,1.709 -1.906,1.682 -1.903,1.655 -1.901,1.627 -1.9,1.6 -1.9,1.4 -1.901,1.373 -1.903,1.345 -1.906,1.318 -1.911,1.291 -1.918,1.264 -1.926,1.238 -1.935,1.212 -1.945,1.186 -1.957,1.162 -1.97,1.138 -1.985,1.114 -2,1.091 -2.017,1.07 -2.035,1.049 -2.054,1.029 -2.074,1.01 -2.095,0.992 -2.116,0.975 -2.139,0.96 -2.163,0.945 -2.187,0.932 -2.211,0.92 -2.237,0.91 -2.263,0.901 -2.289,0.893 -2.316,0.886 -2.343,0.881 -2.37,0.878 -2.398,0.876 -2.425,0.875 -2.425,1.075 -2.408,1.075 -2.391,1.077 -2.374,1.079 -2.357,1.082 -2.341,1.086 -2.325,1.091 -2.309,1.097 -2.293,1.103 -2.277,1.11 -2.262,1.119 -2.248,1.127 -2.234,1.137 -2.22,1.147 -2.208,1.158 -2.195,1.17 -2.183,1.183 -2.172,1.195 -2.162,1.209 -2.152,1.223 -2.144,1.238 -2.135,1.252 -2.128,1.268 -2.122,1.284 -2.116,1.3 -2.111,1.316 -2.107,1.332 -2.104,1.349 -2.102,1.366 -2.1,1.383 -2.1,1.4 -2.1,1.6 -2.1,1.617 -2.102,1.634 -2.104,1.651 -2.107,1.668 -2.111,1.684 -2.116,1.7 -2.122,1.716 -2.128,1.732 -2.135,1.748 -2.144,1.763 -2.152,1.777 -2.162,1.791 -2.172,1.805 -2.183,1.817 -2.195,1.83 -2.208,1.842 -2.22,1.853 -2.234,1.863 -2.248,1.873 -2.262,1.881 -2.277,1.89 -2.293,1.897 -2.309,1.903 -2.325,1.909 -2.341,1.914 -2.357,1.918 -2.374,1.921 -2.391,1.923 -2.408,1.925
Top Overlay:
  lines w0.127: -3.75,-2.8 -3.75,-2.95 3.75,-2.95 3.75,-2.8 ; -3.75,-0.2 -3.75,1.4 -3.3,1.4 ; 3.3,1.4 3.75,1.4 3.75,-0.2
Top Paste:
  drawing of 8 lines, arcs and shapes, not listed
Bottom Paste:
  drawing of 8 lines, arcs and shapes, not listed
Top Solder:
  region: 2.502,-0.45 4.8,-0.45 4.8,-2.553 2.502,-2.553
  region: -4.801,-0.45 -2.5,-0.45 -2.5,-2.551 -4.801,-2.551
  region: 1.802,2.225 3.05,2.225 3.05,0.775 1.802,0.775
  region: -3.051,2.225 -1.8,2.225 -1.8,0.775 -3.051,0.775
Bottom Solder:
  region: 2.502,-0.45 4.8,-0.45 4.8,-2.553 2.502,-2.553
  region: -4.801,-0.45 -2.5,-0.45 -2.5,-2.551 -4.801,-2.551
  region: 1.802,2.225 3.05,2.225 3.05,0.775 1.802,0.775
  region: -3.051,2.225 -1.8,2.225 -1.8,0.775 -3.051,0.775
Mechanical 1:
  lines w0: -3.925,-1.95 ccw(c-3.625,-1.95) -3.625,-2.25 -3.4,-2.25 ccw(c-3.4,-1.95) -3.1,-1.95 -3.1,-1.05 ccw(c-3.4,-1.05) -3.4,-0.75 -3.625,-0.75 ccw(c-3.625,-1.05) -3.925,-1.05 -3.925,-1.95 ; -2.75,1.4 ccw(c-2.425,1.4) -2.425,1.075 ccw(c-2.425,1.4) -2.1,1.4 -2.1,1.6 ccw(c-2.425,1.6) -2.425,1.925 ccw(c-2.425,1.6) -2.75,1.6 -2.75,1.4 ; 2.1,1.4 ccw(c2.425,1.4) 2.425,1.075 ccw(c2.425,1.4) 2.75,1.4 2.75,1.6 ccw(c2.425,1.6) 2.425,1.925 ccw(c2.425,1.6) 2.1,1.6 2.1,1.4 ; 3.1,-1.95 ccw(c3.4,-1.95) 3.4,-2.25 3.625,-2.25 ccw(c3.625,-1.95) 3.925,-1.95 3.925,-1.05 ccw(c3.625,-1.05) 3.625,-0.75 3.4,-0.75 ccw(c3.4,-1.05) 3.1,-1.05 3.1,-1.95
Mechanical 4:
  lines w0.127: -4,-4.25 -4,-2.95 -4,-4.25 ; -4,-4.25 4,-4.25 ; -4,-4.25 4,-4.25 ; -3.75,-2.95 -5.75,-2.95 -3.75,-2.95 ; -3.75,-2.95 3.75,-2.95 ; -3.75,-2.95 -3.75,1.4 ; -3.75,-2.95 3.75,-2.95 ; -3.75,-2.95 -3.75,1.4 ; -3.75,1.4 3.75,1.4 ; -3.75,1.4 3.75,1.4 ; 3.75,-2.95 5.75,-2.95 3.75,-2.95 ; 3.75,-2.95 3.75,1.4 ; 3.75,-2.95 3.75,1.4 ; 4,-4.25 4,-2.95 4,-4.25
Mechanical 16:
  lines w0.05: -4.95,-2.7 -4.25,-2.7 -4.25,-4.5 4.25,-4.5 4.25,-2.7 4.95,-2.7 4.95,-0.3 4,-0.3 4,2.375 -4,2.375 -4,-0.3 -4.95,-0.3 -4.95,-2.7

## X32-K768S315 [mm]
pads (2):
  rrect15% 1x1.8 smd paste-0.05: 1(1.25,0) 2(-1.25,0)
Top Overlay:
  lines w0.2: -0.508,-1.27 0.492,-1.27 ; -0.483,1.245 0.517,1.245